# Altium schematic symbol library DAC7614EB.SchLib: 2 symbols
Pins are listed as number, name and electrical type; pins without a type are passive.

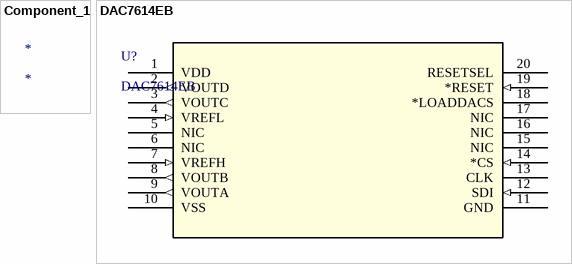
[diagram p0: symbols Component_1 to DAC7614EB]

## Component_1
designator *

## DAC7614EB
designator U?
No Description Available; Mfr_Name: Texas Instruments; Copyright: Copyright (C) 2022 Ultra Librarian. All rights reserved.; Manufacturer_Part_Number: DAC7614EB; RefDes: RefDes; Type: DEV
footprint DB20
pins: 1 VDD (power), 2 VOUTD (out), 3 VOUTC (out), 4 VREFL (in), 5 NIC, 6 NIC, 7 VREFH (in), 8 VOUTB (out), 9 VOUTA (out), 10 VSS (power), 11 GND (power), 12 SDI (in), 13 CLK, 14 *CS (in), 15 NIC, 16 NIC, 17 NIC, 18 *LOADDACS, 19 *RESET (in), 20 RESETSEL